# Altium footprint library WL-SMDC.PcbLib: 1 footprints
Each footprint in its own frame and in the unit in brackets; x right, y up, seen from the top. Pads: shape width x height; smd on the part's side, far side on the other; paste and mask are expansions set on the pad; w line width, h text height; cw(c..) or ccw(c..) is an arc to the next point about the centre after c.
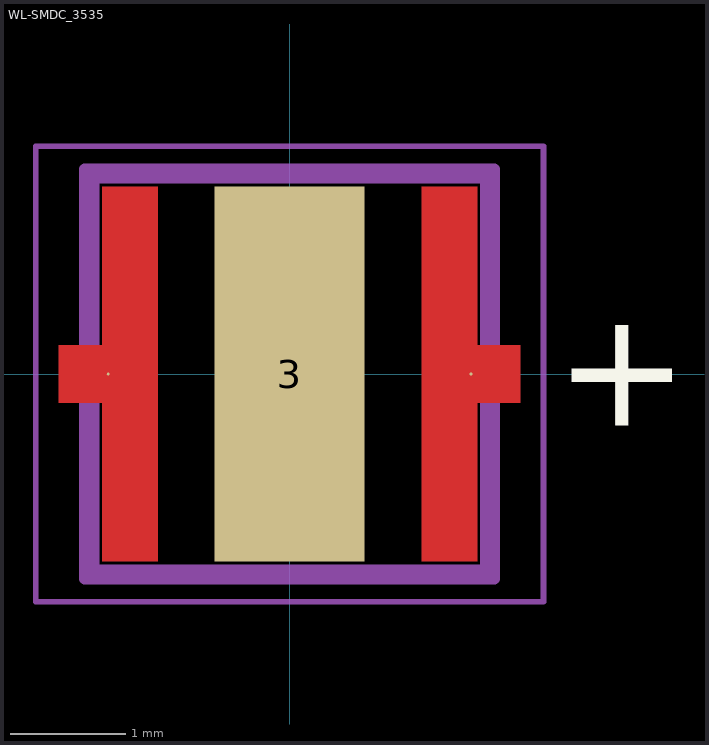
[diagram p0: the footprint, top view; thin cyan lines are the x and y axes]

## WL-SMDC_3535 [mil] "SMD Mono-color Ceramic LED Waterclear, body 3.4x3.4mm, 2-leads"
height 82.68
pads (3):
  round 1 smd: 1(-61.91,0) 2(61.91,0)
  rect 51.18x127.95 smd: 3(0,0)
Top Layer:
  region: 78.74,-9.84 63.98,-9.84 63.98,-63.98 45.08,-63.98 45.08,63.98 63.98,63.98 63.98,9.84 78.74,9.84
  region: -78.74,-9.84 -63.98,-9.84 -63.98,-63.98 -45.08,-63.98 -45.08,63.98 -63.98,63.98 -63.98,9.84 -78.74,9.84
Top Overlay:
  text "+" at 90.55,-17.72 h40
Top Assembly:
  lines w3.94: -69.88,-69.88 69.88,-69.88 69.88,69.88 -69.88,69.88 -69.88,-69.88
Top Designator:
  text ".Designator" at -143.58,-14.06 h39.37
Top 3D Body:
  lines w3.94: -66.93,66.93 -66.93,66.93 ; -66.93,66.93 66.93,66.93 66.93,-66.92 66.92,-66.93 -66.91,-66.93 -66.93,-66.91 -66.93,66.93
Top Courtyard:
  lines w1.97: -86.61,-77.76 86.61,-77.76 86.61,77.76 -86.61,77.76 -86.61,-77.76
Top Component Center:
  lines w3.94: -19.68,0 19.68,0 ; 0,-19.68 0,19.68
3D body "150353xS75400.stp": height 82.68, standoff 0, extent -66.92,-66.92 66.93,66.93